# EAGLE library part 679310124022 (library WR-WTB)
WR-WTB 1.50 mm SMT Male Vertical Shrouded Header Material Properties Insulator Material PA6T Insulator Flammability Rating UL94 V-0 Color Ivory Contact Material Copper Alloy Contact Plating Tin Contact Type Stamped Certification UL Approval E323964 General Information Operating Temperature -25 °C up to +85 °C Compliance RoHS IR 1 A Working Voltage 50 V (AC) Withstanding Voltage 500 V (AC) Contact Resistance 20 mΩ RISO 100 MΩ Pitch 1.5 mm Gender Male Type Vertical Packaging Properties Packaging Tape and Reel with Cap Details see: www.we-online.com/en/components/products/WTB_1_50_SMT_MALE_VERTICAL_SHROUDED_HEADER_6793XX124022 Updated by Ella 2025-03-06 2025 (C) Würth Elektronik
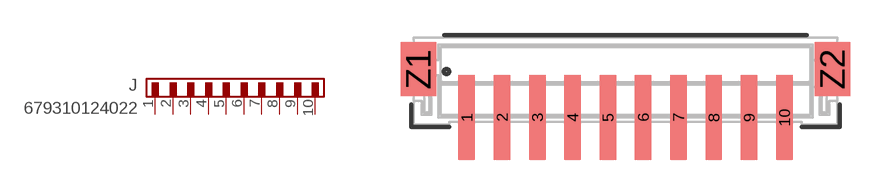
[diagram p66: symbol with the pads of 679310124022; footprint 679310124022]

Designator prefix J

## 679310124022 (CONTACT-RESISTANCE: 20mOhm; DATASHEET: https://www.we-online.com/redexpert/spec/679310124022?ae; GENDER: Male; IR: 1A; L: 18mm; MOUNT: SMT; PACKAGING: Tape and Reel with Cap; PART-NUMBER: 679310124022; PCB-CABLE-PANEL: PCB; PINS: 10; PITCH: 1.5mm; TYPE: Vertical; VALUE: 679310124022; WORKING-VOLTAGE: 50V(AC))  [679310124022]
1  1  pas
2  2  pas
3  3  pas
4  4  pas
5  5  pas
6  6  pas
7  7  pas
8  8  pas
9  9  pas
10  10  pas

## Footprint 679310124022 (pad centres in mm)
WR-WTB 1.50 mm SMT Male Vertical Shrouded Header,10 Pins
smd 0.7 x 3.6: 1 -6.75,-1.55; 2 -5.25,-1.55; 3 -3.75,-1.55; 4 -2.25,-1.55; 5 -0.75,-1.55; 6 0.75,-1.55; 7 2.25,-1.55; 8 3.75,-1.55; 9 5.25,-1.55; 10 6.75,-1.55
smd 1.5 x 2.3: Z1 -8.8,0.5; Z2 8.8,0.5